# EAGLE library part BOSCH-BMX055 (library FaBo-Axis)
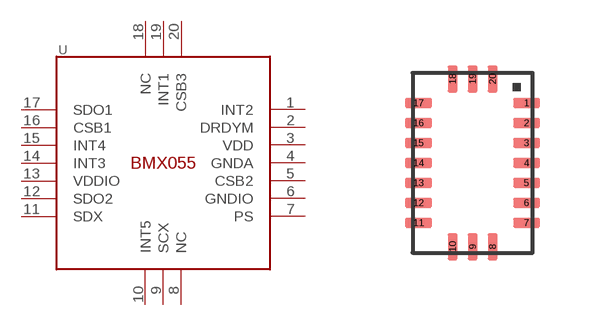
[diagram p10: symbol with the pads of BOSCH-BMX055; footprint BOSCH-BMX055]

Designator prefix -

## BOSCH-BMX055  [BOSCH-BMX055]
1  INT2
2  DRDYM
3  VDD
4  GNDA
5  CSB2
6  GNDIO
7  PS
8  NC
9  SCX
10  INT5
11  SDX
12  SDO2
13  VDDIO
14  INT3
15  INT4
16  CSB1
17  SDO1
18  NC
19  INT1
20  CSB3

## Footprint BOSCH-BMX055 (pad centres in mm)
smd 0.675 x 0.25: 1 1.35,1.5; 2 1.35,1; 3 1.35,0.5; 4 1.35,0; 5 1.35,-0.5; 6 1.35,-1; 7 1.35,-1.5; 11 -1.35,-1.5; 12 -1.35,-1; 13 -1.35,-0.5; 14 -1.35,0; 15 -1.35,0.5; 16 -1.35,1; 17 -1.35,1.5
smd 0.25 x 0.675: 8 0.5,-2.1; 9 0,-2.1; 10 -0.5,-2.1; 18 -0.5,2.1; 19 0,2.1; 20 0.5,2.1